# EAGLE library part STM32F10XVXHX (library angrypig7-IC-MCU)
ST STM32F 100 pin BGA
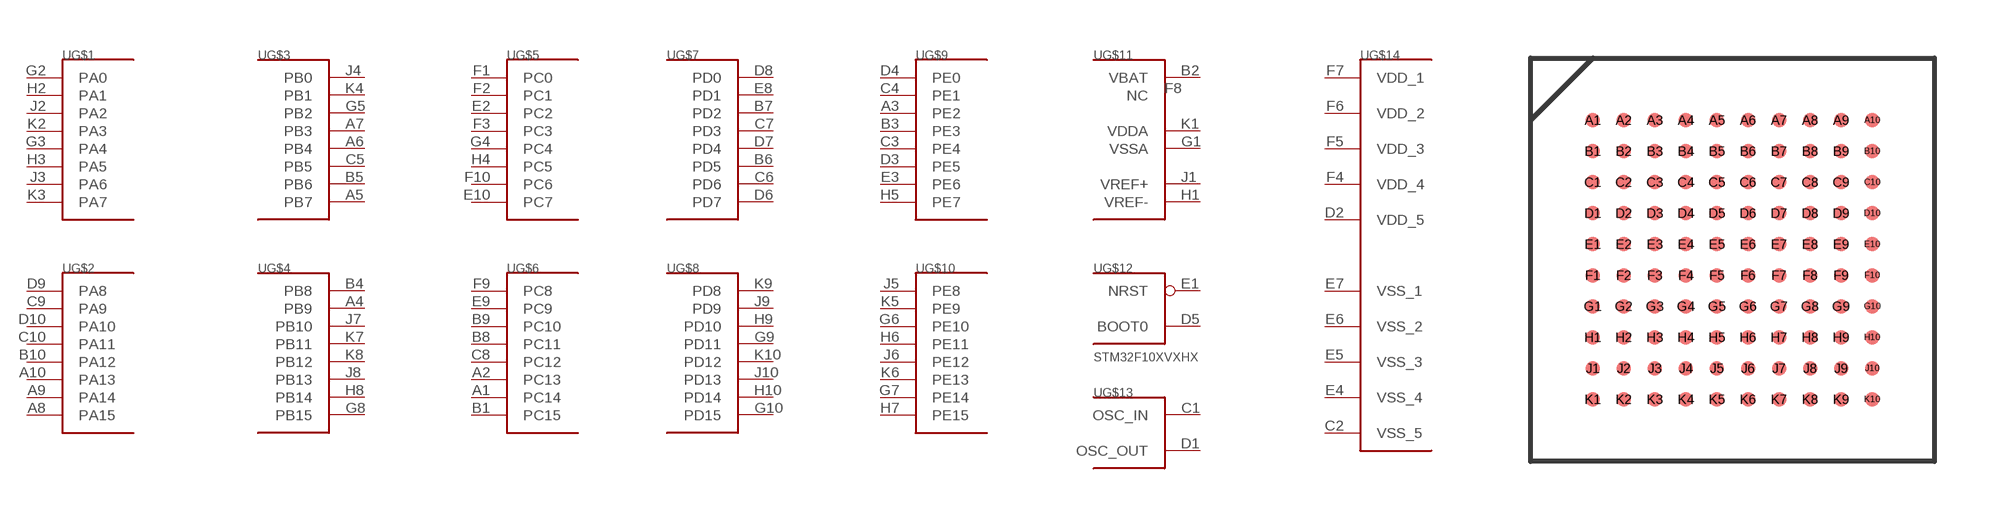
[diagram p8: symbol with the pads of LFBGA100; footprint LFBGA100]

Designator prefix U; gates G$1=PORT_A_L G$2=PORT_A_H G$3=PORT_B_L G$4=PORT_B_H G$5=PORT_C_L G$6=PORT_C_H G$7=PORT_D_L G$8=PORT_D_H G$9=PORT_E_L G$10=PORT_E_H G$11=BAT_AN_L G$12=BOOT_RST G$13=OSC G$14=VCC_VSS_L

## STM32F10XVXHX  [LFBGA100]
A1  G$6:PC14
A2  G$6:PC13
A3  G$9:PE2
A4  G$4:PB9
A5  G$3:PB7
A6  G$3:PB4
A7  G$3:PB3
A8  G$2:PA15
A9  G$2:PA14
A10  G$2:PA13
B1  G$6:PC15
B2  G$11:VBAT  pwr
B3  G$9:PE3
B4  G$4:PB8
B5  G$3:PB6
B6  G$7:PD5
B7  G$7:PD2
B8  G$6:PC11
B9  G$6:PC10
B10  G$2:PA12
C1  G$13:OSC_IN  in
C2  G$14:VSS_5  pwr
C3  G$9:PE4
C4  G$9:PE1
C5  G$3:PB5
C6  G$7:PD6
C7  G$7:PD3
C8  G$6:PC12
C9  G$2:PA9
C10  G$2:PA11
D1  G$13:OSC_OUT  out
D2  G$14:VDD_5  pwr
D3  G$9:PE5
D4  G$9:PE0
D5  G$12:BOOT0  in
D6  G$7:PD7
D7  G$7:PD4
D8  G$7:PD0
D9  G$2:PA8
D10  G$2:PA10
E1  G$12:NRST  in
E2  G$5:PC2
E3  G$9:PE6
E4  G$14:VSS_4  pwr
E5  G$14:VSS_3  pwr
E6  G$14:VSS_2  pwr
E7  G$14:VSS_1  pwr
E8  G$7:PD1
E9  G$6:PC9
E10  G$5:PC7
F1  G$5:PC0
F2  G$5:PC1
F3  G$5:PC3
F4  G$14:VDD_4  pwr
F5  G$14:VDD_3  pwr
F6  G$14:VDD_2  pwr
F7  G$14:VDD_1  pwr
F8  G$11:NC  nc
F9  G$6:PC8
F10  G$5:PC6
G1  G$11:VSSA  pwr
G2  G$1:PA0
G3  G$1:PA4
G4  G$5:PC4
G5  G$3:PB2
G6  G$10:PE10
G7  G$10:PE14
G8  G$4:PB15
G9  G$8:PD11
G10  G$8:PD15
H1  G$11:VREF-  in
H2  G$1:PA1
H3  G$1:PA5
H4  G$5:PC5
H5  G$9:PE7
H6  G$10:PE11
H7  G$10:PE15
H8  G$4:PB14
H9  G$8:PD10
H10  G$8:PD14
J1  G$11:VREF+  in
J2  G$1:PA2
J3  G$1:PA6
J4  G$3:PB0
J5  G$10:PE8
J6  G$10:PE12
J7  G$4:PB10
J8  G$4:PB13
J9  G$8:PD9
J10  G$8:PD13
K1  G$11:VDDA  pwr
K2  G$1:PA3
K3  G$1:PA7
K4  G$3:PB1
K5  G$10:PE9
K6  G$10:PE13
K7  G$4:PB11
K8  G$4:PB12
K9  G$8:PD8
K10  G$8:PD12

## Footprint LFBGA100 (pad centres in mm)
LFBGA100 0.8mm pictch bga
smd 0.37 x 0.37: A1 -3.6,3.6; A2 -2.8,3.6; A3 -2,3.6; A4 -1.2,3.6; A5 -0.4,3.6; A6 0.4,3.6; A7 1.2,3.6; A8 2,3.6; A9 2.8,3.6; A10 3.6,3.6; B1 -3.6,2.8; B2 -2.8,2.8; B3 -2,2.8; B4 -1.2,2.8; B5 -0.4,2.8; B6 0.4,2.8; B7 1.2,2.8; B8 2,2.8; B9 2.8,2.8; B10 3.6,2.8; C1 -3.6,2; C2 -2.8,2; C3 -2,2; C4 -1.2,2; C5 -0.4,2; C6 0.4,2; C7 1.2,2; C8 2,2; C9 2.8,2; C10 3.6,2; D1 -3.6,1.2; D2 -2.8,1.2; D3 -2,1.2; D4 -1.2,1.2; D5 -0.4,1.2; D6 0.4,1.2; D7 1.2,1.2; D8 2,1.2; D9 2.8,1.2; D10 3.6,1.2; E1 -3.6,0.4; E2 -2.8,0.4; E3 -2,0.4; E4 -1.2,0.4; E5 -0.4,0.4; E6 0.4,0.4; E7 1.2,0.4; E8 2,0.4; E9 2.8,0.4; E10 3.6,0.4; F1 -3.6,-0.4; F2 -2.8,-0.4; F3 -2,-0.4; F4 -1.2,-0.4; F5 -0.4,-0.4; F6 0.4,-0.4; F7 1.2,-0.4; F8 2,-0.4; F9 2.8,-0.4; F10 3.6,-0.4; G1 -3.6,-1.2; G2 -2.8,-1.2; G3 -2,-1.2; G4 -1.2,-1.2; G5 -0.4,-1.2; G6 0.4,-1.2; G7 1.2,-1.2; G8 2,-1.2; G9 2.8,-1.2; G10 3.6,-1.2; H1 -3.6,-2; H2 -2.8,-2; H3 -2,-2; H4 -1.2,-2; H5 -0.4,-2; H6 0.4,-2; H7 1.2,-2; H8 2,-2; H9 2.8,-2; H10 3.6,-2; J1 -3.6,-2.8; J2 -2.8,-2.8; J3 -2,-2.8; J4 -1.2,-2.8; J5 -0.4,-2.8; J6 0.4,-2.8; J7 1.2,-2.8; J8 2,-2.8; J9 2.8,-2.8; J10 3.6,-2.8; K1 -3.6,-3.6; K2 -2.8,-3.6; K3 -2,-3.6; K4 -1.2,-3.6; K5 -0.4,-3.6; K6 0.4,-3.6; K7 1.2,-3.6; K8 2,-3.6; K9 2.8,-3.6; K10 3.6,-3.6